# EAGLE library part J0011D21 (library pulse-eng)
RJ45 PulseJack
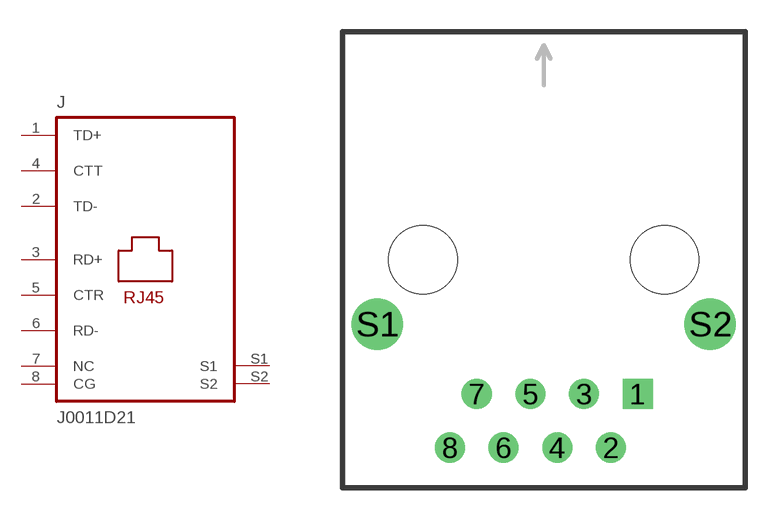
[diagram p10: symbol with the pads of J0-C/D/E; footprint J0-C/D/E]

Designator prefix J

## J0011D21  [J0-C/D/E]
1  TD+  pas
2  TD-  pas
3  RD+  pas
4  CTT  pas
5  CTR  pas
6  RD-  pas
7  NC  nc
8  CG  pas
S1  S1  pas
S2  S2  pas

## Footprint J0-C/D/E (pad centres in mm)
J0 Series RJ45 with Ethernet Balun
drill 0.914 square: 1 4.445,-6.35
drill 0.914 round: 2 3.175,-8.89; 3 1.905,-6.35; 4 0.635,-8.89; 5 -0.635,-6.35; 6 -1.905,-8.89; 7 -3.175,-6.35; 8 -4.445,-8.89
drill 1.626 round: S1 -7.874,-3.048; S2 7.874,-3.048
hole 3.251 at -5.715,0
hole 3.251 at 5.715,0